# Altium schematic symbol library TL7660CDGKR.SchLib: 2 symbols
Pins are listed as number, name and electrical type; pins without a type are passive.

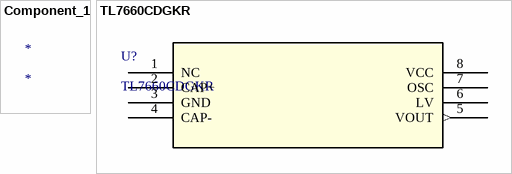
[diagram p0: symbols Component_1 to TL7660CDGKR]

## Component_1
designator *

## TL7660CDGKR
designator U?
No Description Available; Mfr_Name: Texas Instruments; Copyright: Copyright (C) 2022 Ultra Librarian. All rights reserved.; Manufacturer_Part_Number: TL7660CDGKR; RefDes: RefDes; Type: DEV
footprint DGK8
pins: 1 NC, 2 CAP+, 3 GND (power), 4 CAP-, 5 VOUT (out), 6 LV, 7 OSC, 8 VCC (power)